# Altium schematic symbol library POTENTIOMETER.SchLib: 1 symbol
Pins are listed as number, name and electrical type; pins without a type are passive.

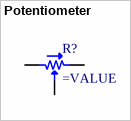
[diagram p0: symbol Potentiometer]

## Potentiometer
designator R?
Potentiometer
pins: 1, 2, 3